# Altium footprint library CUD7GF1B.PcbLib: 1 footprints
Each footprint in its own frame and in the unit in brackets; x right, y up, seen from the top. Pads: shape width x height; smd on the part's side, far side on the other; paste and mask are expansions set on the pad; w line width, h text height; cw(c..) or ccw(c..) is an arc to the next point about the centre after c.
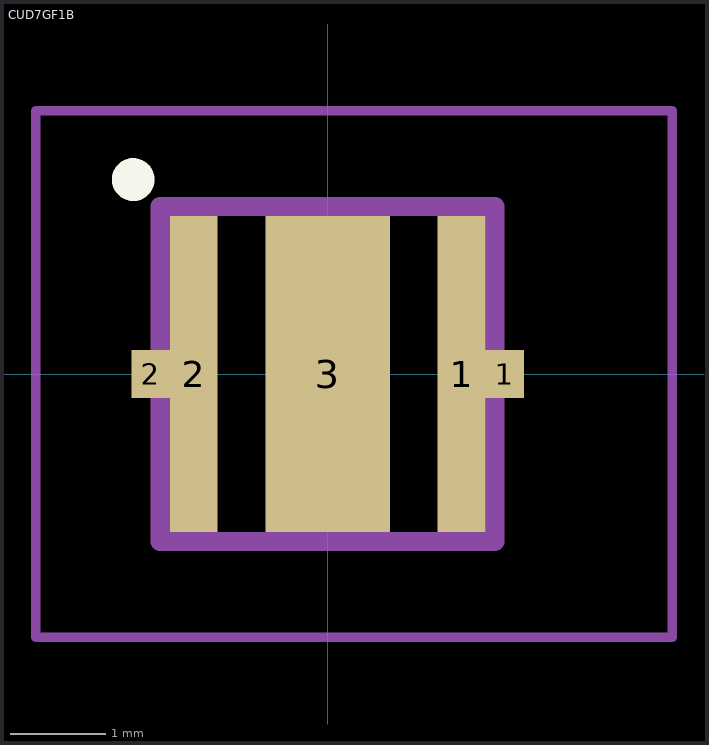
[diagram p0: the footprint, top view; thin cyan lines are the x and y axes]

## CUD7GF1B [mm]
pads (5):
  rect 0.5x3.3 smd: 1(1.4,0) 2(-1.4,0)
  rect 0.4x0.5 smd: 1(1.85,0) 2(-1.85,0)
  rect 1.3x3.3 smd: 3(0,0)
Top Overlay:
  circle w0.254: c-2.032,2.032 r0.097
Mechanical 15:
  lines w0.2: -1.75,-1.75 1.75,-1.75 1.75,1.75 -1.75,1.75 -1.75,-1.75
Mechanical 20:
  lines w0.1: -3.05,-2.75 3.6,-2.75 3.6,2.75 -3.05,2.75 -3.05,-2.75
3D body "CUD7GF1B.stp": height 5.8, standoff -4.65, extent -10.28,-3.376 9.72,3.376